# EAGLE library part CON-ICSP (library eagleLib v2)
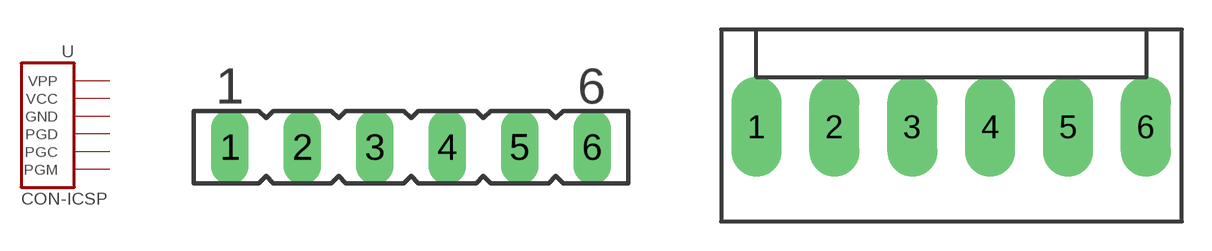
[diagram p48: symbol with the pads of FE06; footprints FE06, KK-156-6]

Designator prefix -

## CON-ICSP-I  [FE06]
1  PGM
2  PGC
3  PGD
4  GND
5  VCC
6  VPP

## CON-ICSP-K  [KK-156-6]
Pads as for FE06

## Footprint FE06 (pad centres in mm)
FEMALE HEADER
drill 0.813 long: 1 -6.35,0; 2 -3.81,0; 3 -1.27,0; 4 1.27,0; 5 3.81,0; 6 6.35,0

## Footprint KK-156-6 (pad centres in mm)
KK 156 HEADER Source: http://www.molex.com/pdm_docs/sd/026604100_sd.pdf
drill 1.7 pad 2.184 long: 1 -9.9,0; 2 -5.94,0; 3 -1.98,0; 4 1.98,0; 5 5.94,0; 6 9.9,0